# EAGLE library part SIM_8X (library usbpiclib)
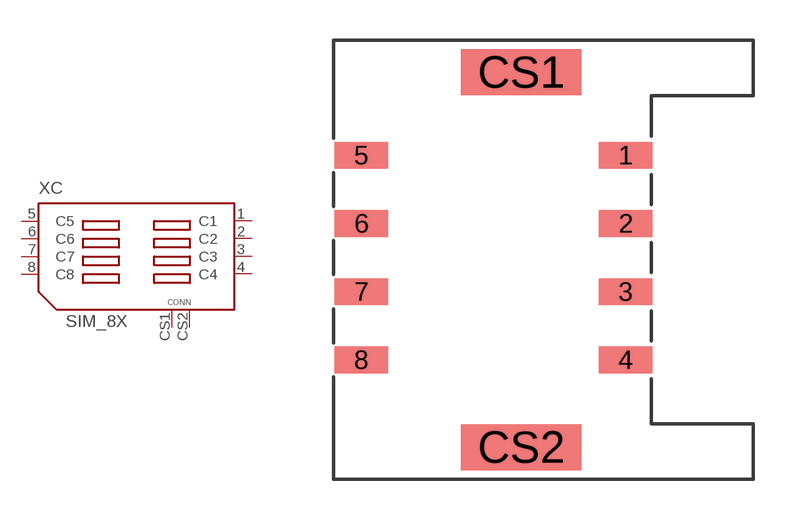
[diagram p1: symbol with the pads of SIM_8XPADS; footprint SIM_8XPADS]

Designator prefix XC

## SIM_8X  [SIM_8XPADS]
1  C1  pas
2  C2  pas
3  C3  pas
4  C4  pas
5  C5  pas
6  C6  pas
7  C7  pas
8  C8  pas
CS1  P$1  pas
CS2  P$2  pas

## Footprint SIM_8XPADS (pad centres in mm)
smd 2 x 1: 1 9.842,3.81; 2 9.842,1.27; 3 9.842,-1.27; 4 9.842,-3.81; 5 0,3.81; 6 0,1.27; 7 0,-1.27; 8 0,-3.81
smd 4.5 x 1.7: CS1 5.953,6.906; CS2 5.953,-7.064